# Altium integrated library LARS_409_MC.Library.IntLib: 87 symbols
Pins are listed as number, name and electrical type; pins without a type are passive.

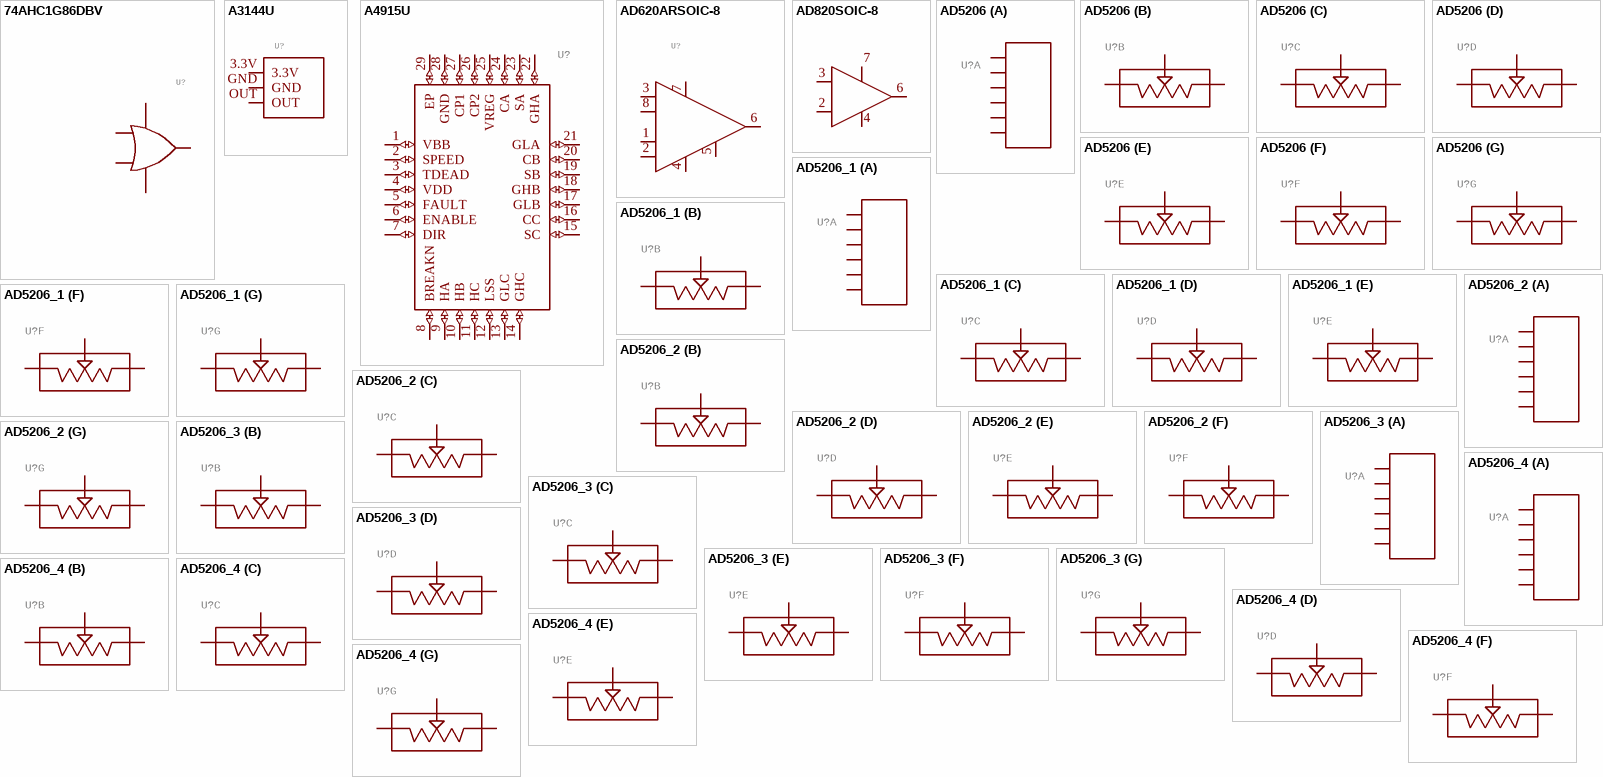
[diagram p0: symbols 74AHC1G86DBV to AD5206_4]

## 74AHC1G86DBV
designator U?
GateName_1: G$1; SymbolName_1: OR; DeviceSetName: 74AHC1G86DBV; LibraryName: LARS_409_MC; Package: SOT-23-5
footprint SOT-23-5
pins: 1 A (io), 2 B (io), 3 GND (io), 4 Y (io), 5 VCC (io)

## A3144U
designator U?
GateName_1: G$1; SymbolName_1: HALL; DeviceName: U; DeviceSetName: A3144; LibraryName: LARS_409_MC; Package: UA
footprint UA
pins: 3.3V (io), GND (io), OUT (io)

## A4915U
designator U?
GateName_1: G$1; SymbolName_1: A4915; DeviceName: U; LibraryName: LARS_409_MC; DeviceSetName: A4915; Package: QFN28
footprint QFN28
pins: 1 VBB (io), 2 SPEED (io), 3 TDEAD (io), 4 VDD (io), 5 FAULT (io), 6 ENABLE (io), 7 DIR (io), 8 BREAKN (io), 9 HA (io), 10 HB (io), 11 HC (io), 12 LSS (io), 13 GLC (io), 14 GHC (io), 15 SC (io), 16 CC (io), 17 GLB (io), 18 GHB (io), 19 SB (io), 20 CB (io), 21 GLA (io), 22 GHA (io), 23 SA (io), 24 CA (io), 25 VREG (io), 26 CP2 (io), 27 CP1 (io), 28 GND (io), 29 EP (io)

## AD620ARSOIC-8
designator U?
GateName_1: G$1; SymbolName_1: AD620AR; DeviceName: SOIC-8; LibraryName: LARS_409_MC; DeviceSetName: AD620AR; Package: SOIC-8
footprint SOIC-8
pins: 1 RG (io), 2 -IN (io), 3 +IN (io), 4 V- (io), 5 REF (io), 6 OUT (io), 7 V+ (io), 8 RG1 (io)

## AD820SOIC-8
designator U?
GateName_1: G$1; SymbolName_1: AD820; DeviceName: SOIC-8; LibraryName: LARS_409_MC; DeviceSetName: AD820; Package: SOIC-8
footprint SOIC-8
pins: 2 -IN (io), 3 +IN (io), 4 V- (io), 6 OUT (io), 7 V+ (io)

## AD5206
designator U?
GateName_1: C; SymbolName_1: DIPO2; GateName_2: 1; SymbolName_2: DIPO1; GateName_3: 2; GateName_4: 3; GateName_5: 4; GateName_6: 5; GateName_7: 6; DeviceSetName: AD5206; SymbolName_3: DIPO1; SymbolName_4: DIPO1; SymbolName_5: DIPO1; SymbolName_6: DIPO1; SymbolName_7: DIPO1; LibraryName: LARS_409_MC; Package: SOIC-24
footprint SOIC-24
part A pins: P$4 GND (io), P$5 !CS (io), P$6 VDD (io), P$7 SDI (io), P$8 CLK (io), P$9 VSS (io)
part B pins: P$16 B1 (io), P$17 W1 (io), P$18 A1 (io)
part C pins: P$19 A1 (io), P$20 W1 (io), P$21 B1 (io)
part D pins: P$13 B1 (io), P$14 W1 (io), P$15 A1 (io)
part E pins: P$22 A1 (io), P$23 W1 (io), P$24 B1 (io)
part F pins: P$10 B1 (io), P$11 W1 (io), P$12 A1 (io)
part G pins: P$1 A1 (io), P$2 W1 (io), P$3 B1 (io)

## AD5206_1
designator U?
GateName_1: C; SymbolName_1: DIPO2; GateName_2: 1; SymbolName_2: DIPO1; GateName_3: 2; GateName_4: 3; GateName_5: 4; GateName_6: 5; GateName_7: 6; DeviceSetName: AD5206; SymbolName_3: DIPO1; SymbolName_4: DIPO1; SymbolName_5: DIPO1; SymbolName_6: DIPO1; SymbolName_7: DIPO1; LibraryName: LARS_409_MC; Package: SOIC-24
footprint SOIC-24
part A pins: P$4 GND (io), P$5 !CS (io), P$6 VDD (io), P$7 SDI (io), P$8 CLK (io), P$9 VSS (io)
part B pins: P$16 B1 (io), P$17 W1 (io), P$18 A1 (io)
part C pins: P$19 A1 (io), P$20 W1 (io), P$21 B1 (io)
part D pins: P$13 B1 (io), P$14 W1 (io), P$15 A1 (io)
part E pins: P$22 A1 (io), P$23 W1 (io), P$24 B1 (io)
part F pins: P$10 B1 (io), P$11 W1 (io), P$12 A1 (io)
part G pins: P$1 A1 (io), P$2 W1 (io), P$3 B1 (io)

## AD5206_2
designator U?
GateName_1: C; SymbolName_1: DIPO2; GateName_2: 1; SymbolName_2: DIPO1; GateName_3: 2; GateName_4: 3; GateName_5: 4; GateName_6: 5; GateName_7: 6; DeviceSetName: AD5206; SymbolName_3: DIPO1; SymbolName_4: DIPO1; SymbolName_5: DIPO1; SymbolName_6: DIPO1; SymbolName_7: DIPO1; LibraryName: LARS_409_MC; Package: SOIC-24
footprint SOIC-24
part A pins: P$4 GND (io), P$5 !CS (io), P$6 VDD (io), P$7 SDI (io), P$8 CLK (io), P$9 VSS (io)
part B pins: P$16 B1 (io), P$17 W1 (io), P$18 A1 (io)
part C pins: P$19 A1 (io), P$20 W1 (io), P$21 B1 (io)
part D pins: P$13 B1 (io), P$14 W1 (io), P$15 A1 (io)
part E pins: P$22 A1 (io), P$23 W1 (io), P$24 B1 (io)
part F pins: P$10 B1 (io), P$11 W1 (io), P$12 A1 (io)
part G pins: P$1 A1 (io), P$2 W1 (io), P$3 B1 (io)

## AD5206_3
designator U?
GateName_1: C; SymbolName_1: DIPO2; GateName_2: 1; SymbolName_2: DIPO1; GateName_3: 2; GateName_4: 3; GateName_5: 4; GateName_6: 5; GateName_7: 6; DeviceSetName: AD5206; SymbolName_3: DIPO1; SymbolName_4: DIPO1; SymbolName_5: DIPO1; SymbolName_6: DIPO1; SymbolName_7: DIPO1; LibraryName: LARS_409_MC; Package: SOIC-24
footprint SOIC-24
part A pins: P$4 GND (io), P$5 !CS (io), P$6 VDD (io), P$7 SDI (io), P$8 CLK (io), P$9 VSS (io)
part B pins: P$16 B1 (io), P$17 W1 (io), P$18 A1 (io)
part C pins: P$19 A1 (io), P$20 W1 (io), P$21 B1 (io)
part D pins: P$13 B1 (io), P$14 W1 (io), P$15 A1 (io)
part E pins: P$22 A1 (io), P$23 W1 (io), P$24 B1 (io)
part F pins: P$10 B1 (io), P$11 W1 (io), P$12 A1 (io)
part G pins: P$1 A1 (io), P$2 W1 (io), P$3 B1 (io)

## AD5206_4
designator U?
GateName_1: C; SymbolName_1: DIPO2; GateName_2: 1; SymbolName_2: DIPO1; GateName_3: 2; GateName_4: 3; GateName_5: 4; GateName_6: 5; GateName_7: 6; DeviceSetName: AD5206; SymbolName_3: DIPO1; SymbolName_4: DIPO1; SymbolName_5: DIPO1; SymbolName_6: DIPO1; SymbolName_7: DIPO1; LibraryName: LARS_409_MC; Package: SOIC-24
footprint SOIC-24
part A pins: P$4 GND (io), P$5 !CS (io), P$6 VDD (io), P$7 SDI (io), P$8 CLK (io), P$9 VSS (io)
part B pins: P$16 B1 (io), P$17 W1 (io), P$18 A1 (io)
part C pins: P$19 A1 (io), P$20 W1 (io), P$21 B1 (io)
part D pins: P$13 B1 (io), P$14 W1 (io), P$15 A1 (io)
part E pins: P$22 A1 (io), P$23 W1 (io), P$24 B1 (io)
part F pins: P$10 B1 (io), P$11 W1 (io), P$12 A1 (io)
part G pins: P$1 A1 (io), P$2 W1 (io), P$3 B1 (io)

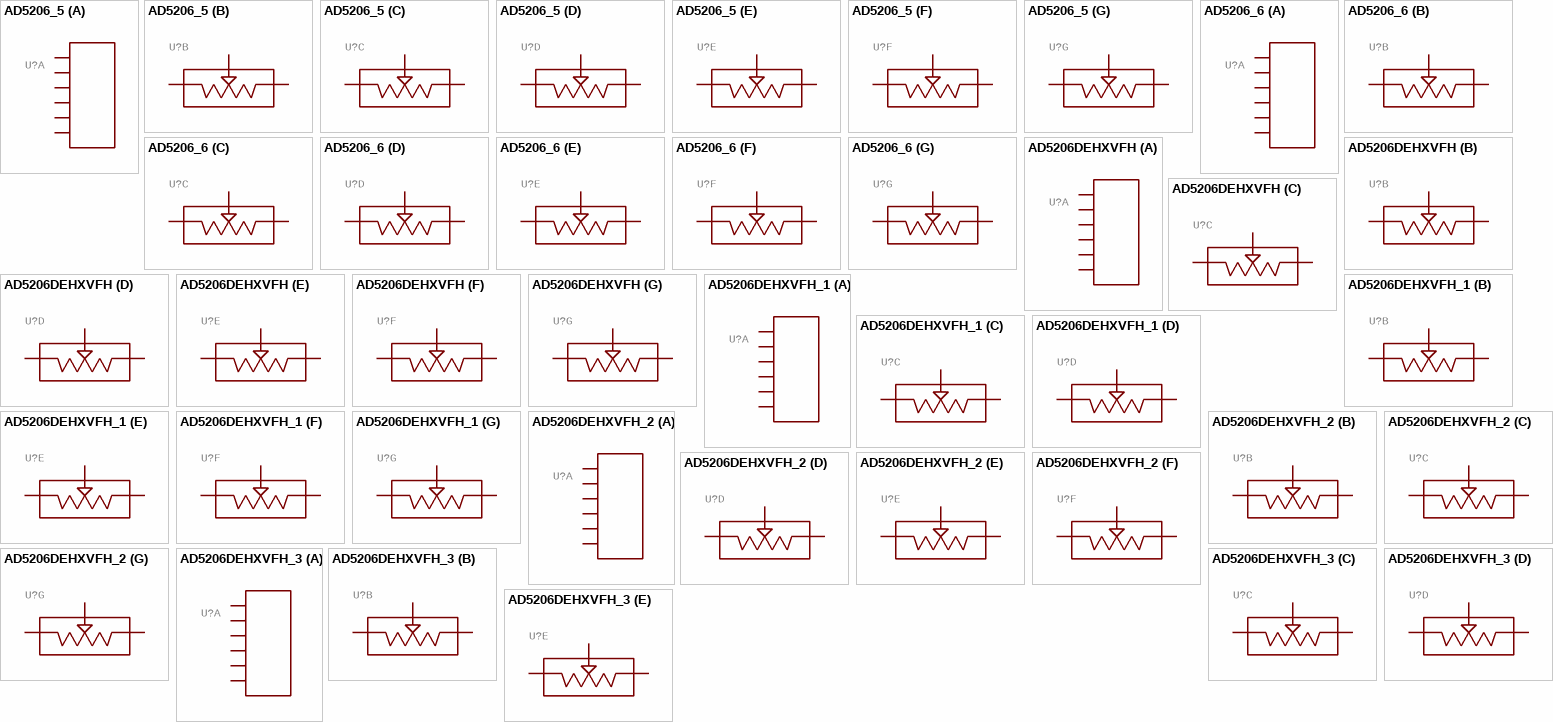
[diagram p1: symbols AD5206_5 to AD5206DEHXVFH_3]

## AD5206_5
designator U?
GateName_1: C; SymbolName_1: DIPO2; GateName_2: 1; SymbolName_2: DIPO1; GateName_3: 2; GateName_4: 3; GateName_5: 4; GateName_6: 5; GateName_7: 6; DeviceSetName: AD5206; SymbolName_3: DIPO1; SymbolName_4: DIPO1; SymbolName_5: DIPO1; SymbolName_6: DIPO1; SymbolName_7: DIPO1; LibraryName: LARS_409_MC; Package: SOIC-24
footprint SOIC-24
part A pins: P$4 GND (io), P$5 !CS (io), P$6 VDD (io), P$7 SDI (io), P$8 CLK (io), P$9 VSS (io)
part B pins: P$16 B1 (io), P$17 W1 (io), P$18 A1 (io)
part C pins: P$19 A1 (io), P$20 W1 (io), P$21 B1 (io)
part D pins: P$13 B1 (io), P$14 W1 (io), P$15 A1 (io)
part E pins: P$22 A1 (io), P$23 W1 (io), P$24 B1 (io)
part F pins: P$10 B1 (io), P$11 W1 (io), P$12 A1 (io)
part G pins: P$1 A1 (io), P$2 W1 (io), P$3 B1 (io)

## AD5206_6
designator U?
GateName_1: C; SymbolName_1: DIPO2; GateName_2: 1; SymbolName_2: DIPO1; GateName_3: 2; GateName_4: 3; GateName_5: 4; GateName_6: 5; GateName_7: 6; DeviceSetName: AD5206; SymbolName_3: DIPO1; SymbolName_4: DIPO1; SymbolName_5: DIPO1; SymbolName_6: DIPO1; SymbolName_7: DIPO1; LibraryName: LARS_409_MC; Package: SOIC-24
footprint SOIC-24
part A pins: P$4 GND (io), P$5 !CS (io), P$6 VDD (io), P$7 SDI (io), P$8 CLK (io), P$9 VSS (io)
part B pins: P$16 B1 (io), P$17 W1 (io), P$18 A1 (io)
part C pins: P$19 A1 (io), P$20 W1 (io), P$21 B1 (io)
part D pins: P$13 B1 (io), P$14 W1 (io), P$15 A1 (io)
part E pins: P$22 A1 (io), P$23 W1 (io), P$24 B1 (io)
part F pins: P$10 B1 (io), P$11 W1 (io), P$12 A1 (io)
part G pins: P$1 A1 (io), P$2 W1 (io), P$3 B1 (io)

## AD5206DEHXVFH
designator U?
GateName_1: C; SymbolName_1: DIPO2; GateName_2: 1; SymbolName_2: DIPO1; GateName_3: 2; GateName_4: 3; GateName_5: 4; GateName_6: 5; GateName_7: 6; DeviceName: DEHXVFH; DeviceSetName: AD5206; SymbolName_3: DIPO1; SymbolName_4: DIPO1; SymbolName_5: DIPO1; SymbolName_6: DIPO1; SymbolName_7: DIPO1; LibraryName: LARS_409_MC; Package: TSSOP-24
footprint TSSOP-24
part A pins: P$4 GND (io), P$5 !CS (io), P$6 VDD (io), P$7 SDI (io), P$8 CLK (io), P$9 VSS (io)
part B pins: P$16 B1 (io), P$17 W1 (io), P$18 A1 (io)
part C pins: P$19 A1 (io), P$20 W1 (io), P$21 B1 (io)
part D pins: P$13 B1 (io), P$14 W1 (io), P$15 A1 (io)
part E pins: P$22 A1 (io), P$23 W1 (io), P$24 B1 (io)
part F pins: P$10 B1 (io), P$11 W1 (io), P$12 A1 (io)
part G pins: P$1 A1 (io), P$2 W1 (io), P$3 B1 (io)

## AD5206DEHXVFH_1
designator U?
GateName_1: C; SymbolName_1: DIPO2; GateName_2: 1; SymbolName_2: DIPO1; GateName_3: 2; GateName_4: 3; GateName_5: 4; GateName_6: 5; GateName_7: 6; DeviceName: DEHXVFH; DeviceSetName: AD5206; SymbolName_3: DIPO1; SymbolName_4: DIPO1; SymbolName_5: DIPO1; SymbolName_6: DIPO1; SymbolName_7: DIPO1; LibraryName: LARS_409_MC; Package: TSSOP-24
footprint TSSOP-24
part A pins: P$4 GND (io), P$5 !CS (io), P$6 VDD (io), P$7 SDI (io), P$8 CLK (io), P$9 VSS (io)
part B pins: P$16 B1 (io), P$17 W1 (io), P$18 A1 (io)
part C pins: P$19 A1 (io), P$20 W1 (io), P$21 B1 (io)
part D pins: P$13 B1 (io), P$14 W1 (io), P$15 A1 (io)
part E pins: P$22 A1 (io), P$23 W1 (io), P$24 B1 (io)
part F pins: P$10 B1 (io), P$11 W1 (io), P$12 A1 (io)
part G pins: P$1 A1 (io), P$2 W1 (io), P$3 B1 (io)

## AD5206DEHXVFH_2
designator U?
GateName_1: C; SymbolName_1: DIPO2; GateName_2: 1; SymbolName_2: DIPO1; GateName_3: 2; GateName_4: 3; GateName_5: 4; GateName_6: 5; GateName_7: 6; DeviceName: DEHXVFH; DeviceSetName: AD5206; SymbolName_3: DIPO1; SymbolName_4: DIPO1; SymbolName_5: DIPO1; SymbolName_6: DIPO1; SymbolName_7: DIPO1; LibraryName: LARS_409_MC; Package: TSSOP-24
footprint TSSOP-24
part A pins: P$4 GND (io), P$5 !CS (io), P$6 VDD (io), P$7 SDI (io), P$8 CLK (io), P$9 VSS (io)
part B pins: P$16 B1 (io), P$17 W1 (io), P$18 A1 (io)
part C pins: P$19 A1 (io), P$20 W1 (io), P$21 B1 (io)
part D pins: P$13 B1 (io), P$14 W1 (io), P$15 A1 (io)
part E pins: P$22 A1 (io), P$23 W1 (io), P$24 B1 (io)
part F pins: P$10 B1 (io), P$11 W1 (io), P$12 A1 (io)
part G pins: P$1 A1 (io), P$2 W1 (io), P$3 B1 (io)

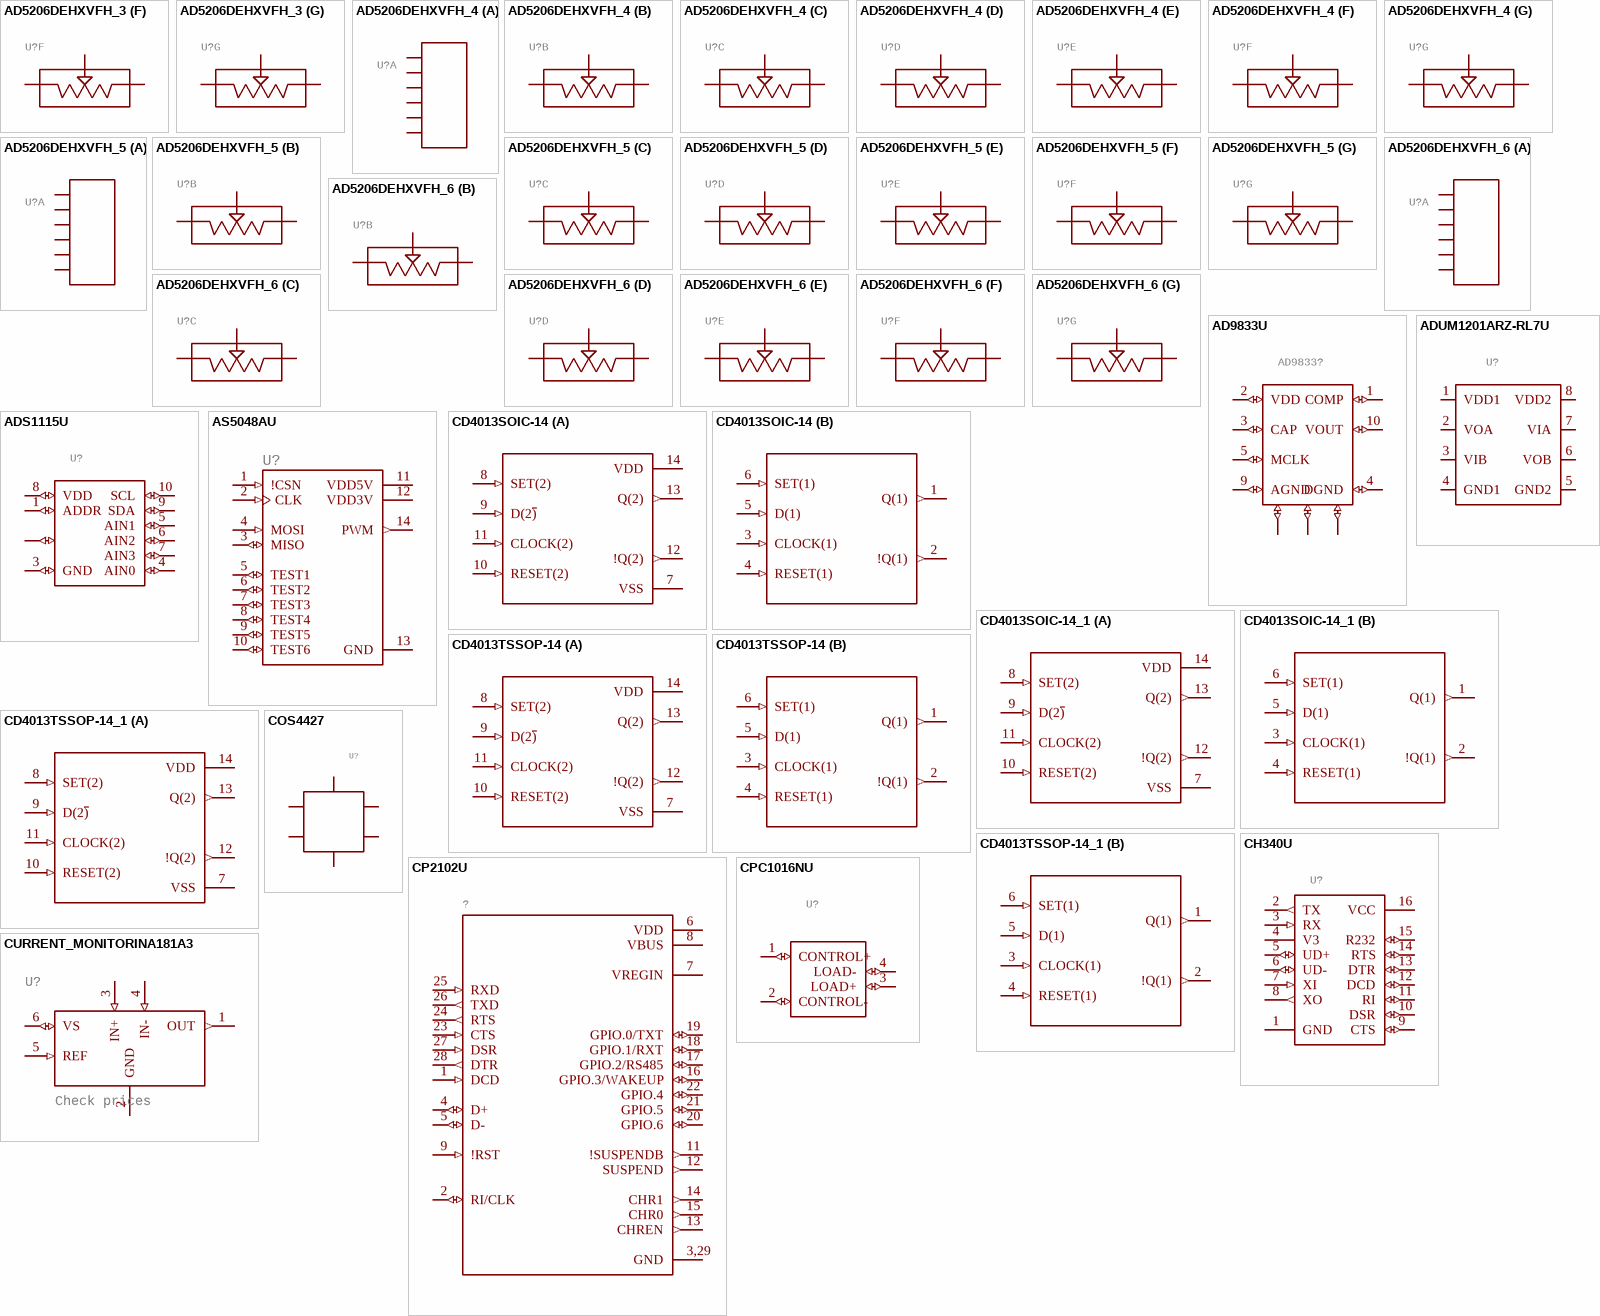
[diagram p2: symbols AD5206DEHXVFH_3 to CURRENT_MONITORINA181A3]

## AD5206DEHXVFH_3
designator U?
GateName_1: C; SymbolName_1: DIPO2; GateName_2: 1; SymbolName_2: DIPO1; GateName_3: 2; GateName_4: 3; GateName_5: 4; GateName_6: 5; GateName_7: 6; DeviceName: DEHXVFH; DeviceSetName: AD5206; SymbolName_3: DIPO1; SymbolName_4: DIPO1; SymbolName_5: DIPO1; SymbolName_6: DIPO1; SymbolName_7: DIPO1; LibraryName: LARS_409_MC; Package: TSSOP-24
footprint TSSOP-24
part A pins: P$4 GND (io), P$5 !CS (io), P$6 VDD (io), P$7 SDI (io), P$8 CLK (io), P$9 VSS (io)
part B pins: P$16 B1 (io), P$17 W1 (io), P$18 A1 (io)
part C pins: P$19 A1 (io), P$20 W1 (io), P$21 B1 (io)
part D pins: P$13 B1 (io), P$14 W1 (io), P$15 A1 (io)
part E pins: P$22 A1 (io), P$23 W1 (io), P$24 B1 (io)
part F pins: P$10 B1 (io), P$11 W1 (io), P$12 A1 (io)
part G pins: P$1 A1 (io), P$2 W1 (io), P$3 B1 (io)

## AD5206DEHXVFH_4
designator U?
GateName_1: C; SymbolName_1: DIPO2; GateName_2: 1; SymbolName_2: DIPO1; GateName_3: 2; GateName_4: 3; GateName_5: 4; GateName_6: 5; GateName_7: 6; DeviceName: DEHXVFH; DeviceSetName: AD5206; SymbolName_3: DIPO1; SymbolName_4: DIPO1; SymbolName_5: DIPO1; SymbolName_6: DIPO1; SymbolName_7: DIPO1; LibraryName: LARS_409_MC; Package: TSSOP-24
footprint TSSOP-24
part A pins: P$4 GND (io), P$5 !CS (io), P$6 VDD (io), P$7 SDI (io), P$8 CLK (io), P$9 VSS (io)
part B pins: P$16 B1 (io), P$17 W1 (io), P$18 A1 (io)
part C pins: P$19 A1 (io), P$20 W1 (io), P$21 B1 (io)
part D pins: P$13 B1 (io), P$14 W1 (io), P$15 A1 (io)
part E pins: P$22 A1 (io), P$23 W1 (io), P$24 B1 (io)
part F pins: P$10 B1 (io), P$11 W1 (io), P$12 A1 (io)
part G pins: P$1 A1 (io), P$2 W1 (io), P$3 B1 (io)

## AD5206DEHXVFH_5
designator U?
GateName_1: C; SymbolName_1: DIPO2; GateName_2: 1; SymbolName_2: DIPO1; GateName_3: 2; GateName_4: 3; GateName_5: 4; GateName_6: 5; GateName_7: 6; DeviceName: DEHXVFH; DeviceSetName: AD5206; SymbolName_3: DIPO1; SymbolName_4: DIPO1; SymbolName_5: DIPO1; SymbolName_6: DIPO1; SymbolName_7: DIPO1; LibraryName: LARS_409_MC; Package: TSSOP-24
footprint TSSOP-24
part A pins: P$4 GND (io), P$5 !CS (io), P$6 VDD (io), P$7 SDI (io), P$8 CLK (io), P$9 VSS (io)
part B pins: P$16 B1 (io), P$17 W1 (io), P$18 A1 (io)
part C pins: P$19 A1 (io), P$20 W1 (io), P$21 B1 (io)
part D pins: P$13 B1 (io), P$14 W1 (io), P$15 A1 (io)
part E pins: P$22 A1 (io), P$23 W1 (io), P$24 B1 (io)
part F pins: P$10 B1 (io), P$11 W1 (io), P$12 A1 (io)
part G pins: P$1 A1 (io), P$2 W1 (io), P$3 B1 (io)

## AD5206DEHXVFH_6
designator U?
GateName_1: C; SymbolName_1: DIPO2; GateName_2: 1; SymbolName_2: DIPO1; GateName_3: 2; GateName_4: 3; GateName_5: 4; GateName_6: 5; GateName_7: 6; DeviceName: DEHXVFH; DeviceSetName: AD5206; SymbolName_3: DIPO1; SymbolName_4: DIPO1; SymbolName_5: DIPO1; SymbolName_6: DIPO1; SymbolName_7: DIPO1; LibraryName: LARS_409_MC; Package: TSSOP-24
footprint TSSOP-24
part A pins: P$4 GND (io), P$5 !CS (io), P$6 VDD (io), P$7 SDI (io), P$8 CLK (io), P$9 VSS (io)
part B pins: P$16 B1 (io), P$17 W1 (io), P$18 A1 (io)
part C pins: P$19 A1 (io), P$20 W1 (io), P$21 B1 (io)
part D pins: P$13 B1 (io), P$14 W1 (io), P$15 A1 (io)
part E pins: P$22 A1 (io), P$23 W1 (io), P$24 B1 (io)
part F pins: P$10 B1 (io), P$11 W1 (io), P$12 A1 (io)
part G pins: P$1 A1 (io), P$2 W1 (io), P$3 B1 (io)

## AD9833U
designator AD9833?
GateName_1: G$1; SymbolName_1: AD9833; DeviceName: U; LibraryName: LARS_409_MC; DeviceSetName: AD9833; Package: MSOP10
footprint MSOP10
pins: 1 COMP (io), 2 VDD (io), 3 CAP (io), 4 DGND (io), 5 MCLK (io), 6 SDATA (io), 7 SCLK (io), 8 FSYNC (io), 9 AGND (io), 10 VOUT (io)

## ADS1115U
designator U?
GateName_1: G$1; SymbolName_1: ADS1115; DeviceName: U; LibraryName: LARS_409_MC; DeviceSetName: ADS1115; Package: SOP-10N
footprint SOP-10N
pins: 1 ADDR (io), 2 ALERT/RDY (io), 3 GND (io), 4 AIN0 (io), 5 AIN1 (io), 6 AIN2 (io), 7 AIN3 (io), 8 VDD (io), 9 SDA (io), 10 SCL (io)

## ADUM1201ARZ-RL7U
designator U?
GateName_1: G$1; SymbolName_1: ADUM1201ARZ-RL7; DeviceName: U; LibraryName: LARS_409_MC; DeviceSetName: ADUM1201ARZ-RL7; Package: SOIC-8
footprint SOIC-8
pins: 1 VDD1 (io), 2 VOA (io), 3 VIB (io), 4 GND1 (io), 5 GND2 (io), 6 VOB (io), 7 VIA (io), 8 VDD2 (io)

## AS5048AU
designator U?
GateName_1: G$1; SymbolName_1: AS5048; DeviceName: U; DeviceSetName: AS5048A; LibraryName: LARS_409_MC; Package: SOP65P
footprint SOP65P
pins: 1 !CSN (in), 2 CLK (in), 3 MISO (io), 4 MOSI (in), 5 TEST1 (io), 6 TEST2 (io), 7 TEST3 (io), 8 TEST4 (io), 9 TEST5 (io), 10 TEST6 (io), 11 VDD5V (power), 12 VDD3V (power), 13 GND, 14 PWM (out)

## CD4013SOIC-14
designator U?
GateName_1: G$1; SymbolName_1: CD4013/2(2); GateName_2: G$2; SymbolName_2: CD4013/2; DeviceName: SOIC-14; DeviceSetName: CD4013; LibraryName: LARS_409_MC; Package: SOIC-14
footprint SOIC-14
part A pins: 7 VSS (power), 8 SET(2) (in), 9 D(2~{)} (in), 10 RESET(2) (in), 11 CLOCK(2) (in), 12 !Q(2) (out), 13 Q(2) (out), 14 VDD (power)
part B pins: 1 Q(1) (out), 2 !Q(1) (out), 3 CLOCK(1) (in), 4 RESET(1) (in), 5 D(1) (in), 6 SET(1) (in)

## CD4013SOIC-14_1
designator U?
GateName_1: G$1; SymbolName_1: CD4013/2(2); GateName_2: G$2; SymbolName_2: CD4013/2; DeviceName: SOIC-14; DeviceSetName: CD4013; LibraryName: LARS_409_MC; Package: SOIC-14
footprint SOIC-14
part A pins: 7 VSS (power), 8 SET(2) (in), 9 D(2~{)} (in), 10 RESET(2) (in), 11 CLOCK(2) (in), 12 !Q(2) (out), 13 Q(2) (out), 14 VDD (power)
part B pins: 1 Q(1) (out), 2 !Q(1) (out), 3 CLOCK(1) (in), 4 RESET(1) (in), 5 D(1) (in), 6 SET(1) (in)

## CD4013TSSOP-14
designator U?
GateName_1: G$1; SymbolName_1: CD4013/2(2); GateName_2: G$2; SymbolName_2: CD4013/2; DeviceName: TSSOP-14; DeviceSetName: CD4013; LibraryName: LARS_409_MC; Package: TSSOP-14
footprint TSSOP-14
part A pins: 7 VSS (power), 8 SET(2) (in), 9 D(2~{)} (in), 10 RESET(2) (in), 11 CLOCK(2) (in), 12 !Q(2) (out), 13 Q(2) (out), 14 VDD (power)
part B pins: 1 Q(1) (out), 2 !Q(1) (out), 3 CLOCK(1) (in), 4 RESET(1) (in), 5 D(1) (in), 6 SET(1) (in)

## CD4013TSSOP-14_1
designator U?
GateName_1: G$1; SymbolName_1: CD4013/2(2); GateName_2: G$2; SymbolName_2: CD4013/2; DeviceName: TSSOP-14; DeviceSetName: CD4013; LibraryName: LARS_409_MC; Package: TSSOP-14
footprint TSSOP-14
part A pins: 7 VSS (power), 8 SET(2) (in), 9 D(2~{)} (in), 10 RESET(2) (in), 11 CLOCK(2) (in), 12 !Q(2) (out), 13 Q(2) (out), 14 VDD (power)
part B pins: 1 Q(1) (out), 2 !Q(1) (out), 3 CLOCK(1) (in), 4 RESET(1) (in), 5 D(1) (in), 6 SET(1) (in)

## CH340U
designator U?
GateName_1: G$1; SymbolName_1: CH340; DeviceName: U; LibraryName: LARS_409_MC; DeviceSetName: CH340; Package: SOIC-16
footprint SOIC-16
pins: 1 GND (power), 2 TX (out), 3 RX (in), 4 V3 (power), 5 UD+ (io), 6 UD- (io), 7 XI (in), 8 XO (out), 9 CTS (io), 10 DSR (io), 11 RI (io), 12 DCD (io), 13 DTR (io), 14 RTS (io), 15 R232 (io), 16 VCC (power)

## COS4427
designator U?
GateName_1: G$1; SymbolName_1: COS4427SR; DeviceSetName: COS4427; LibraryName: LARS_409_MC; Package: SOIC-8
footprint SOIC-8
pins: 2 INA (io), 3 GND (io), 4 INB (io), 5 OUTB (io), 6 VCC (io), 7 OUTA (io)

## CP2102U
designator ?
GateName_1: G$1; SymbolName_1: CP2102; DeviceName: U; LibraryName: LARS_409_MC; DeviceSetName: CP2102; Package: QFN28
footprint QFN28
pins: 1 DCD (in), 2 RI/CLK (io), 3,29 GND (power), 4 D+ (io), 5 D- (io), 6 VDD (power), 7 VREGIN (power), 8 VBUS (power), 9 !RST (in), 11 !SUSPENDB (out), 12 SUSPEND (out), 13 CHREN (out), 14 CHR1 (out), 15 CHR0 (out), 16 GPIO.3/WAKEUP (io), 17 GPIO.2/RS485 (io), 18 GPIO.1/RXT (io), 19 GPIO.0/TXT (io), 20 GPIO.6 (io), 21 GPIO.5 (io), 22 GPIO.4 (io), 23 CTS (in), 24 RTS (out), 25 RXD (in), 26 TXD (out), 27 DSR (in), 28 DTR (out)

## CPC1016NU
designator U?
GateName_1: G$1; SymbolName_1: CPC1016; DeviceName: U; DeviceSetName: CPC1016N; LibraryName: LARS_409_MC; Package: SOP-4
footprint SOP-4
pins: 1 CONTROL+ (io), 2 CONTROL- (io), 3 LOAD+ (io), 4 LOAD- (io)

## CURRENT_MONITORINA181A3
designator U?, comment Check prices
GateName_1: G$1; SymbolName_1: INA181; DeviceName: INA181A3; DeviceSetName: CURRENT_MONITOR; LibraryName: LARS_409_MC; Package: SOT23-6
footprint SOT23-6
pins: 1 OUT (out), 2 GND (power), 3 IN+ (in), 4 IN- (in), 5 REF (in), 6 VS (io)

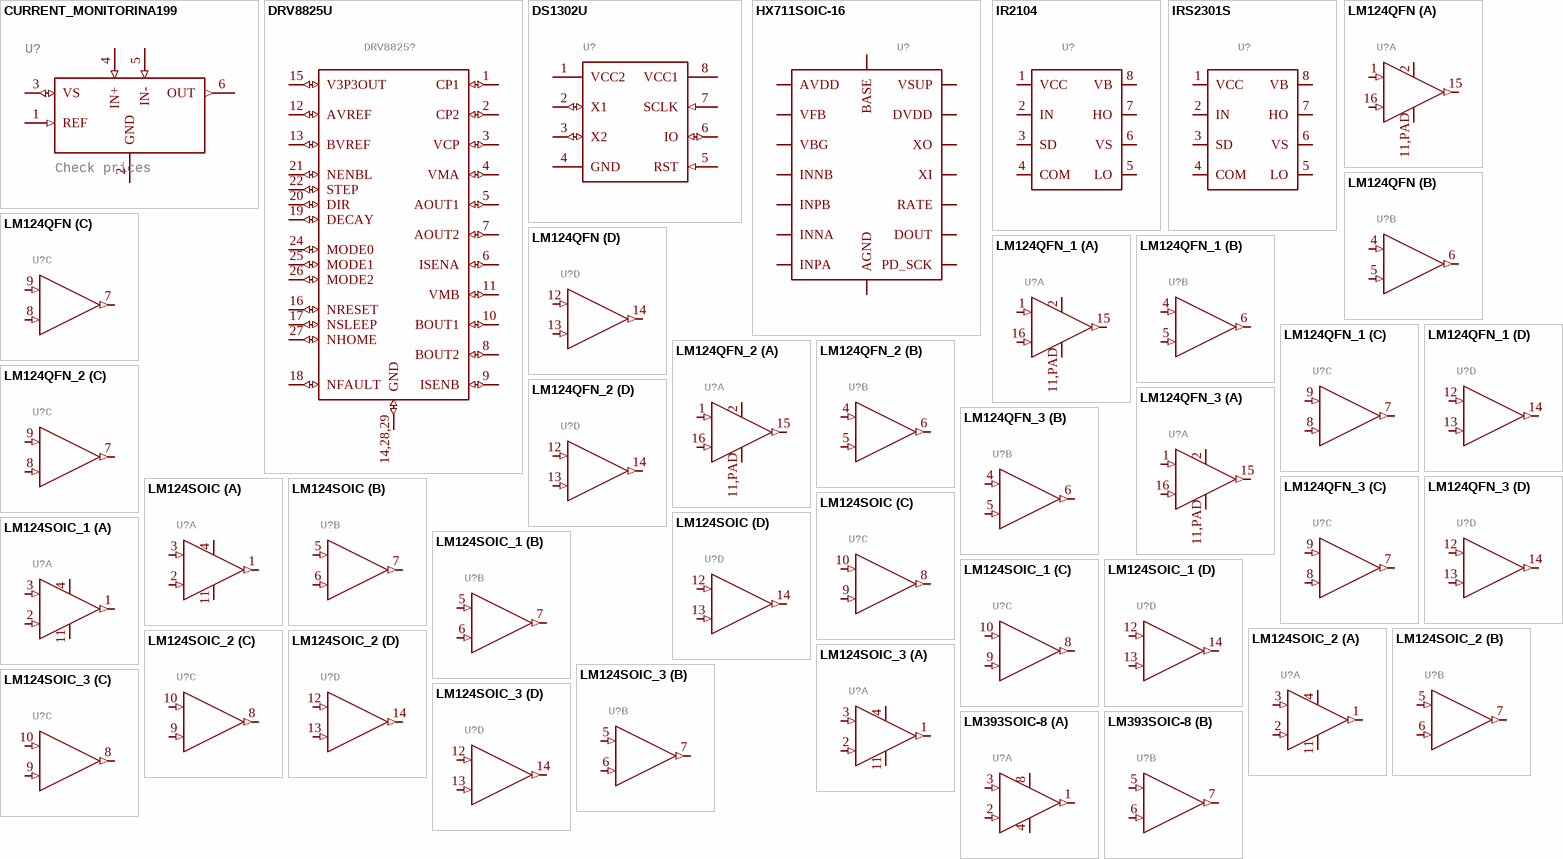
[diagram p3: symbols CURRENT_MONITORINA199 to LM393SOIC-8]

## CURRENT_MONITORINA199
designator U?, comment Check prices
GateName_1: G$1; SymbolName_1: INA181; DeviceName: INA199; DeviceSetName: CURRENT_MONITOR; LibraryName: LARS_409_MC; Package: PDSO
footprint PDSO
pins: 1 REF (in), 2 GND (power), 3 VS (io), 4 IN+ (in), 5 IN- (in), 6 OUT (out)

## DRV8825U
designator DRV8825?
GateName_1: G$1; SymbolName_1: DRV8825; DeviceName: U; LibraryName: LARS_409_MC; DeviceSetName: DRV8825; Package: SOP-29T275X475N
footprint SOP-29T275X475N
pins: 1 CP1 (io), 2 CP2 (io), 3 VCP (io), 4 VMA (io), 5 AOUT1 (io), 6 ISENA (io), 7 AOUT2 (io), 8 BOUT2 (io), 9 ISENB (io), 10 BOUT1 (io), 11 VMB (io), 12 AVREF (io), 13 BVREF (io), 14,28,29 GND (io), 15 V3P3OUT (io), 16 NRESET (io), 17 NSLEEP (io), 18 NFAULT (io), 19 DECAY (io), 20 DIR (io), 21 NENBL (io), 22 STEP (io), 24 MODE0 (io), 25 MODE1 (io), 26 MODE2 (io), 27 NHOME (io)

## DS1302U
designator U?
GateName_1: G$1; SymbolName_1: DS1302; DeviceName: U; LibraryName: LARS_409_MC; DeviceSetName: DS1302; Package: PDIP-8
footprint PDIP-8
pins: 1 VCC2 (power), 2 X1 (io), 3 X2 (io), 4 GND (power), 5 RST (in), 6 IO (io), 7 SCLK (in), 8 VCC1 (power)

## HX711SOIC-16
designator U?
GateName_1: G$1; SymbolName_1: HX711; DeviceName: SOIC-16; LibraryName: LARS_409_MC; DeviceSetName: HX711; Package: SOIC-16
footprint SOIC-16
pins: 1 VSUP (io), 2 BASE (io), 3 AVDD (io), 4 VFB (io), 5 AGND (io), 6 VBG (io), 7 INNA (io), 8 INPA (io), 9 INNB (io), 10 INPB (io), 11 PD_SCK (io), 12 DOUT (io), 13 XO (io), 14 XI (io), 15 RATE (io), 16 DVDD (io)

## IR2104
designator U?
GateName_1: G$1; SymbolName_1: IR2104; LibraryName: LARS_409_MC; DeviceSetName: IR2104; Package: SOIC-8
footprint SOIC-8
pins: 1 VCC (io), 2 IN (io), 3 SD (io), 4 COM (io), 5 LO (io), 6 VS (io), 7 HO (io), 8 VB (io)

## IRS2301S
designator U?
GateName_1: G$1; SymbolName_1: IR2104; DeviceSetName: IRS2301S; LibraryName: LARS_409_MC; Package: IRS2301S
footprint IRS2301S
pins: 1 VCC (io), 2 IN (io), 3 SD (io), 4 COM (io), 5 LO (io), 6 VS (io), 7 HO (io), 8 VB (io)

## LM124QFN
designator U?
GateName_1: G1; SymbolName_1: OPAMP2; GateName_2: G2; SymbolName_2: OPAMP1; GateName_3: G3; GateName_4: G4; DeviceName: QFN; DeviceSetName: LM124; SymbolName_3: OPAMP1; SymbolName_4: OPAMP1; LibraryName: LARS_409_MC; Package: QFN16(3X3)
footprint QFN16(3X3)
part A pins: 1 +IN1 (in), 2 +V (power), 11,PAD GND (power), 15 OUT1 (out), 16 -IN1 (in)
part B pins: 4 +IN2 (in), 5 -IN2 (in), 6 OUT2 (out)
part C pins: 7 OUT2 (out), 8 -IN2 (in), 9 +IN2 (in)
part D pins: 12 +IN2 (in), 13 -IN2 (in), 14 OUT2 (out)

## LM124QFN_1
designator U?
GateName_1: G1; SymbolName_1: OPAMP2; GateName_2: G2; SymbolName_2: OPAMP1; GateName_3: G3; GateName_4: G4; DeviceName: QFN; DeviceSetName: LM124; SymbolName_3: OPAMP1; SymbolName_4: OPAMP1; LibraryName: LARS_409_MC; Package: QFN16(3X3)
footprint QFN16(3X3)
part A pins: 1 +IN1 (in), 2 +V (power), 11,PAD GND (power), 15 OUT1 (out), 16 -IN1 (in)
part B pins: 4 +IN2 (in), 5 -IN2 (in), 6 OUT2 (out)
part C pins: 7 OUT2 (out), 8 -IN2 (in), 9 +IN2 (in)
part D pins: 12 +IN2 (in), 13 -IN2 (in), 14 OUT2 (out)

## LM124QFN_2
designator U?
GateName_1: G1; SymbolName_1: OPAMP2; GateName_2: G2; SymbolName_2: OPAMP1; GateName_3: G3; GateName_4: G4; DeviceName: QFN; DeviceSetName: LM124; SymbolName_3: OPAMP1; SymbolName_4: OPAMP1; LibraryName: LARS_409_MC; Package: QFN16(3X3)
footprint QFN16(3X3)
part A pins: 1 +IN1 (in), 2 +V (power), 11,PAD GND (power), 15 OUT1 (out), 16 -IN1 (in)
part B pins: 4 +IN2 (in), 5 -IN2 (in), 6 OUT2 (out)
part C pins: 7 OUT2 (out), 8 -IN2 (in), 9 +IN2 (in)
part D pins: 12 +IN2 (in), 13 -IN2 (in), 14 OUT2 (out)

## LM124QFN_3
designator U?
GateName_1: G1; SymbolName_1: OPAMP2; GateName_2: G2; SymbolName_2: OPAMP1; GateName_3: G3; GateName_4: G4; DeviceName: QFN; DeviceSetName: LM124; SymbolName_3: OPAMP1; SymbolName_4: OPAMP1; LibraryName: LARS_409_MC; Package: QFN16(3X3)
footprint QFN16(3X3)
part A pins: 1 +IN1 (in), 2 +V (power), 11,PAD GND (power), 15 OUT1 (out), 16 -IN1 (in)
part B pins: 4 +IN2 (in), 5 -IN2 (in), 6 OUT2 (out)
part C pins: 7 OUT2 (out), 8 -IN2 (in), 9 +IN2 (in)
part D pins: 12 +IN2 (in), 13 -IN2 (in), 14 OUT2 (out)

## LM124SOIC
designator U?
GateName_1: G1; SymbolName_1: OPAMP2; GateName_2: G2; SymbolName_2: OPAMP1; GateName_3: G3; GateName_4: G4; DeviceName: SOIC; DeviceSetName: LM124; SymbolName_3: OPAMP1; SymbolName_4: OPAMP1; LibraryName: LARS_409_MC; Package: SOIC-14
footprint SOIC-14
part A pins: 1 OUT1 (out), 2 -IN1 (in), 3 +IN1 (in), 4 +V (power), 11 GND (power)
part B pins: 5 +IN2 (in), 6 -IN2 (in), 7 OUT2 (out)
part C pins: 8 OUT2 (out), 9 -IN2 (in), 10 +IN2 (in)
part D pins: 12 +IN2 (in), 13 -IN2 (in), 14 OUT2 (out)

## LM124SOIC_1
designator U?
GateName_1: G1; SymbolName_1: OPAMP2; GateName_2: G2; SymbolName_2: OPAMP1; GateName_3: G3; GateName_4: G4; DeviceName: SOIC; DeviceSetName: LM124; SymbolName_3: OPAMP1; SymbolName_4: OPAMP1; LibraryName: LARS_409_MC; Package: SOIC-14
footprint SOIC-14
part A pins: 1 OUT1 (out), 2 -IN1 (in), 3 +IN1 (in), 4 +V (power), 11 GND (power)
part B pins: 5 +IN2 (in), 6 -IN2 (in), 7 OUT2 (out)
part C pins: 8 OUT2 (out), 9 -IN2 (in), 10 +IN2 (in)
part D pins: 12 +IN2 (in), 13 -IN2 (in), 14 OUT2 (out)

## LM124SOIC_2
designator U?
GateName_1: G1; SymbolName_1: OPAMP2; GateName_2: G2; SymbolName_2: OPAMP1; GateName_3: G3; GateName_4: G4; DeviceName: SOIC; DeviceSetName: LM124; SymbolName_3: OPAMP1; SymbolName_4: OPAMP1; LibraryName: LARS_409_MC; Package: SOIC-14
footprint SOIC-14
part A pins: 1 OUT1 (out), 2 -IN1 (in), 3 +IN1 (in), 4 +V (power), 11 GND (power)
part B pins: 5 +IN2 (in), 6 -IN2 (in), 7 OUT2 (out)
part C pins: 8 OUT2 (out), 9 -IN2 (in), 10 +IN2 (in)
part D pins: 12 +IN2 (in), 13 -IN2 (in), 14 OUT2 (out)

## LM124SOIC_3
designator U?
GateName_1: G1; SymbolName_1: OPAMP2; GateName_2: G2; SymbolName_2: OPAMP1; GateName_3: G3; GateName_4: G4; DeviceName: SOIC; DeviceSetName: LM124; SymbolName_3: OPAMP1; SymbolName_4: OPAMP1; LibraryName: LARS_409_MC; Package: SOIC-14
footprint SOIC-14
part A pins: 1 OUT1 (out), 2 -IN1 (in), 3 +IN1 (in), 4 +V (power), 11 GND (power)
part B pins: 5 +IN2 (in), 6 -IN2 (in), 7 OUT2 (out)
part C pins: 8 OUT2 (out), 9 -IN2 (in), 10 +IN2 (in)
part D pins: 12 +IN2 (in), 13 -IN2 (in), 14 OUT2 (out)

## LM393SOIC-8
designator U?
GateName_1: G$1; SymbolName_1: OPAMP2; GateName_2: G$2; SymbolName_2: OPAMP1; DeviceName: SOIC-8; DeviceSetName: LM393; LibraryName: LARS_409_MC; Package: SOIC-8
footprint SOIC-8
part A pins: 1 OUT1 (out), 2 -IN1 (in), 3 +IN1 (in), 4 GND (power), 8 +V (power)
part B pins: 5 +IN2 (in), 6 -IN2 (in), 7 OUT2 (out)

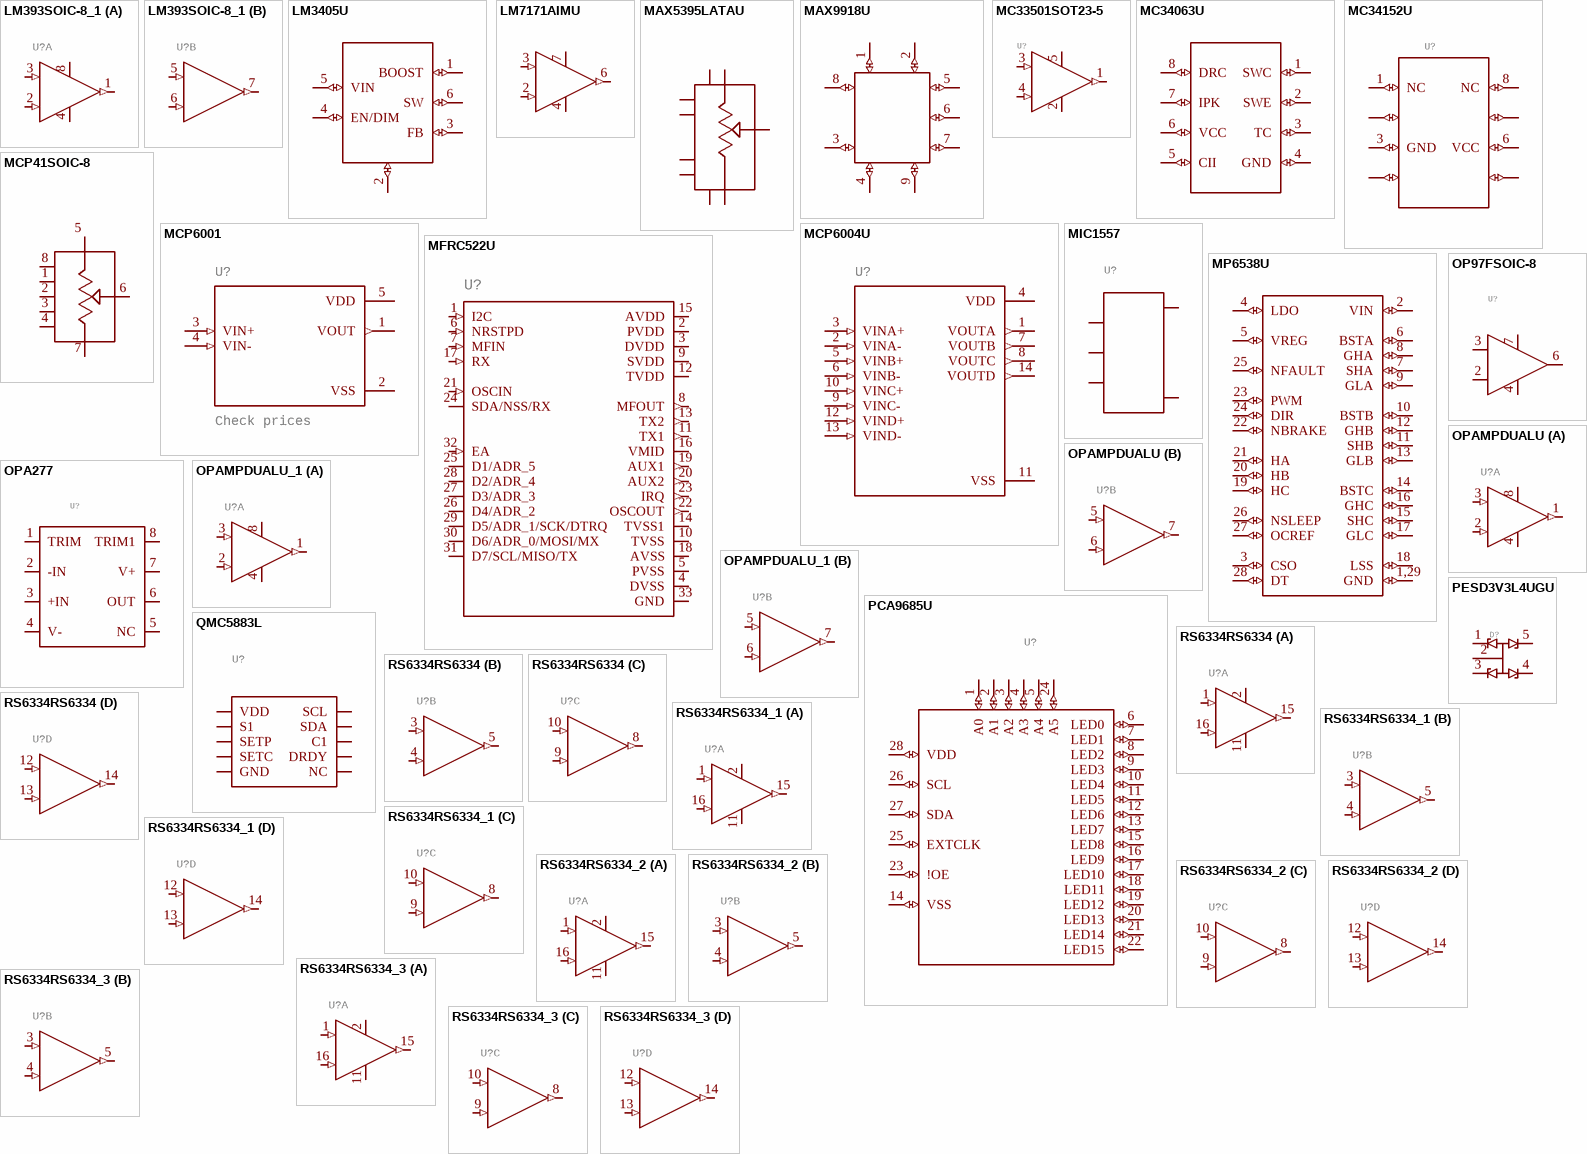
[diagram p4: symbols LM393SOIC-8_1 to RS6334RS6334_3]

## LM393SOIC-8_1
designator U?
GateName_1: G$1; SymbolName_1: OPAMP2; GateName_2: G$2; SymbolName_2: OPAMP1; DeviceName: SOIC-8; DeviceSetName: LM393; LibraryName: LARS_409_MC; Package: SOIC-8
footprint SOIC-8
part A pins: 1 OUT1 (out), 2 -IN1 (in), 3 +IN1 (in), 4 GND (power), 8 +V (power)
part B pins: 5 +IN2 (in), 6 -IN2 (in), 7 OUT2 (out)

## LM3405U
designator U?
GateName_1: G$1; SymbolName_1: LM3405; DeviceName: U; LibraryName: LARS_409_MC; DeviceSetName: LM3405; Package: SOT23-6
footprint SOT23-6
pins: 1 BOOST (io), 2 GND (io), 3 FB (io), 4 EN/DIM (io), 5 VIN (io), 6 SW (io)

## LM7171AIMU
designator U?
GateName_1: G$1; SymbolName_1: OPAMP3; DeviceName: U; DeviceSetName: LM7171AIM; LibraryName: LARS_409_MC; Package: SOIC-8
footprint SOIC-8
pins: 2 -IN1 (in), 3 +IN1 (in), 4 -V (power), 6 OUT1 (out), 7 +V (power)

## MAX5395LATAU
designator U?
GateName_1: G$1; SymbolName_1: MAX5395LATA; DeviceName: U; LibraryName: LARS_409_MC; DeviceSetName: MAX5395LATA; Package: SON-9T80X180N
footprint SON-9T80X180N
pins: 1 L (io), 2 GND (io), 3 ADDPR0 (io), 4 SDA (io), 5 SCL (io), 6 VDD (io), 7 W (io), 8 H (io), 9 EP (io)

## MAX9918U
designator U?
GateName_1: G$1; SymbolName_1: MAX9918; DeviceName: U; LibraryName: LARS_409_MC; DeviceSetName: MAX9918; Package: HSOIC8
footprint HSOIC8
pins: 1 RS+ (io), 2 RS- (io), 3 SHDN (io), 4 GND (io), 5 OUT (io), 6 FB (io), 7 REFIN (io), 8 VCC (io), 9 THERM (io)

## MC33501SOT23-5
designator U?
GateName_1: G$1; SymbolName_1: OPAMP2; DeviceName: SOT23-5; DeviceSetName: MC33501; LibraryName: LARS_409_MC; Package: SOT-23-5
footprint SOT-23-5
pins: 1 OUT1 (out), 2 GND (power), 3 +IN1 (in), 4 -IN1 (in), 5 +V (power)

## MC34063U
designator U?
GateName_1: G$1; SymbolName_1: MC34063; DeviceName: U; LibraryName: LARS_409_MC; DeviceSetName: MC34063; Package: SOIC-8
footprint SOIC-8
pins: 1 SWC (io), 2 SWE (io), 3 TC (io), 4 GND (io), 5 CII (io), 6 VCC (io), 7 IPK (io), 8 DRC (io)

## MC34152U
designator U?
GateName_1: G$1; SymbolName_1: MC34152; DeviceName: U; LibraryName: LARS_409_MC; DeviceSetName: MC34152; Package: SOIC-8N
footprint SOIC-8N
pins: 1 NC (io), 2 IN_A (io), 3 GND (io), 4 IN_B (io), 5 OUT_B (io), 6 VCC (io), 7 OUT_A (io), 8 NС (io)

## MCP41SOIC-8
designator U?
GateName_1: G$1; SymbolName_1: MCP41; DeviceName: SOIC-8; LibraryName: LARS_409_MC; DeviceSetName: MCP41; Package: SOIC-8
footprint SOIC-8
pins: 1 CS (io), 2 SCK (io), 3 SI (io), 4 VSS (io), 5 A (io), 6 W (io), 7 B (io), 8 VDD (io)

## MCP6001
designator U?, comment Check prices
GateName_1: A; SymbolName_1: MCP6001RT-E/OT; DeviceSetName: MCP6001; LibraryName: LARS_409_MC; Package: SOT-23-5
footprint SOT-23-5
pins: 1 VOUT (out), 2 VSS (power), 3 VIN+ (in), 4 VIN- (in), 5 VDD (power)

## MCP6004U
designator U?
GateName_1: A; SymbolName_1: MCP6004-E/ST; DeviceName: U; DeviceSetName: MCP6004; LibraryName: LARS_409_MC; Package: TSSOP-14
footprint TSSOP-14
pins: 1 VOUTA (out), 2 VINA- (in), 3 VINA+ (in), 4 VDD (power), 5 VINB+ (in), 6 VINB- (in), 7 VOUTB (out), 8 VOUTC (out), 9 VINC- (in), 10 VINC+ (in), 11 VSS (power), 12 VIND+ (in), 13 VIND- (in), 14 VOUTD (out)

## MFRC522U
designator U?
GateName_1: G$1; SymbolName_1: MFRC522; DeviceName: U; LibraryName: LARS_409_MC; DeviceSetName: MFRC522; Package: MFRC522
footprint MFRC522
pins: 1 I2C (in), 2 PVDD (power), 3 DVDD (power), 4 DVSS (power), 5 PVSS (power), 6 NRSTPD (in), 7 MFIN (in), 8 MFOUT (out), 9 SVDD (power), 10 TVSS (power), 11 TX1 (out), 12 TVDD (power), 13 TX2 (out), 14 TVSS1 (power), 15 AVDD (power), 16 VMID (power), 17 RX (in), 18 AVSS (power), 19 AUX1 (out), 20 AUX2 (out), 21 OSCIN (in), 22 OSCOUT (out), 23 IRQ (out), 24 SDA/NSS/RX (io), 25 D1/ADR_5 (io), 26 D4/ADR_2 (io), 27 D3/ADR_3 (io), 28 D2/ADR_4 (io), 29 D5/ADR_1/SCK/DTRQ (io), 30 D6/ADR_0/MOSI/MX (io), 31 D7/SCL/MISO/TX (io), 32 EA (in), 33 GND (power)

## MIC1557
designator U?
GateName_1: G$1; SymbolName_1: MIC1557; LibraryName: LARS_409_MC; DeviceSetName: MIC1557; Package: SOT-23-5
footprint SOT-23-5
pins: 1 T/T (io), 2 GND (io), 3 CS (io), 4 VS (io), 5 OUT (io)

## MP6538U
designator U?
GateName_1: G$1; SymbolName_1: MP6538; DeviceName: U; LibraryName: LARS_409_MC; DeviceSetName: MP6538; Package: QFN28_5X4
footprint QFN28_5X4
pins: 1,29 GND (io), 2 VIN (io), 3 CSO (io), 4 LDO (io), 5 VREG (io), 6 BSTA (io), 7 SHA (io), 8 GHA (io), 9 GLA (io), 10 BSTB (io), 11 SHB (io), 12 GHB (io), 13 GLB (io), 14 BSTC (io), 15 SHC (io), 16 GHC (io), 17 GLC (io), 18 LSS (io), 19 HC (io), 20 HB (io), 21 HA (io), 22 NBRAKE (io), 23 PWM (io), 24 DIR (io), 25 NFAULT (io), 26 NSLEEP (io), 27 OCREF (io), 28 DT (io)

## OP97FSOIC-8
designator U?
GateName_1: G$1; SymbolName_1: OP97F; DeviceName: SOIC-8; LibraryName: LARS_409_MC; DeviceSetName: OP97F; Package: SOIC-8
footprint SOIC-8
pins: 2 -IN (io), 3 +IN (io), 4 V- (io), 6 OUT (io), 7 V+ (io)

## OPA277
designator U?
GateName_1: G$1; SymbolName_1: OPA277; LibraryName: LARS_409_MC; DeviceSetName: OPA277; Package: SOIC-8
footprint SOIC-8
pins: 1 TRIM (io), 2 -IN (io), 3 +IN (io), 4 V- (io), 5 NC (io), 6 OUT (io), 7 V+ (io), 8 TRIM1 (io)

## OPAMPDUALU
designator U?
GateName_1: A; SymbolName_1: OPAMP2; GateName_2: B; SymbolName_2: OPAMP1; DeviceName: U; DeviceSetName: OPAMPDUAL; LibraryName: LARS_409_MC; Package: SOIC-8
footprint SOIC-8
part A pins: 1 OUT1 (out), 2 -IN1 (in), 3 +IN1 (in), 4 GND (power), 8 +V (power)
part B pins: 5 +IN2 (in), 6 -IN2 (in), 7 OUT2 (out)

## OPAMPDUALU_1
designator U?
GateName_1: A; SymbolName_1: OPAMP2; GateName_2: B; SymbolName_2: OPAMP1; DeviceName: U; DeviceSetName: OPAMPDUAL; LibraryName: LARS_409_MC; Package: SOIC-8
footprint SOIC-8
part A pins: 1 OUT1 (out), 2 -IN1 (in), 3 +IN1 (in), 4 GND (power), 8 +V (power)
part B pins: 5 +IN2 (in), 6 -IN2 (in), 7 OUT2 (out)

## PCA9685U
designator U?
GateName_1: G$1; SymbolName_1: PCA9685; DeviceName: U; LibraryName: LARS_409_MC; DeviceSetName: PCA9685; Package: TSSOP-28
footprint TSSOP-28
pins: 1 A0 (io), 2 A1 (io), 3 A2 (io), 4 A3 (io), 5 A4 (io), 6 LED0 (io), 7 LED1 (io), 8 LED2 (io), 9 LED3 (io), 10 LED4 (io), 11 LED5 (io), 12 LED6 (io), 13 LED7 (io), 14 VSS (io), 15 LED8 (io), 16 LED9 (io), 17 LED10 (io), 18 LED11 (io), 19 LED12 (io), 20 LED13 (io), 21 LED14 (io), 22 LED15 (io), 23 !OE (io), 24 A5 (io), 25 EXTCLK (io), 26 SCL (io), 27 SDA (io), 28 VDD (io)

## PESD3V3L4UGU
designator D?
GateName_1: G$1; SymbolName_1: PESD3V3L4UG; DeviceName: U; LibraryName: LARS_409_MC; DeviceSetName: PESD3V3L4UG; Package: SOT353
footprint SOT353
pins: 1 CATHODE(DIODE_1), 2 COMMON_ANODE, 3 CATHODE(DIODE_2), 4 CATHODE(DIODE_3), 5 CATHODE(DIODE_4)

## QMC5883L
designator U?
GateName_1: G$1; SymbolName_1: QMC5883L; LibraryName: LARS_409_MC; DeviceSetName: QMC5883L; Package: QFN16(3X3)NOPAD
footprint QFN16(3X3)NOPAD
pins: 1 SCL (io), 2,13 VDD (io), 3,5,6,7,14 NC (io), 4 S1 (io), 8 SETP (io), 9,11 GND (io), 10 C1 (io), 12 SETC (io), 15 DRDY (io), 16 SDA (io)

## RS6334RS6334
designator U?
GateName_1: G1; SymbolName_1: OPAMP2; GateName_2: G2; SymbolName_2: OPAMP1; GateName_3: G3; GateName_4: G4; DeviceName: RS6334; SymbolName_3: OPAMP1; SymbolName_4: OPAMP1; LibraryName: LARS_409_MC; DeviceSetName: RS6334; Package: QFN16(3X3)
footprint QFN16(3X3)
part A pins: 1 +IN1 (in), 2 +V (power), 11 GND (power), 15 OUT1 (out), 16 -IN1 (in)
part B pins: 3 +IN2 (in), 4 -IN2 (in), 5 OUT2 (out)
part C pins: 8 OUT2 (out), 9 -IN2 (in), 10 +IN2 (in)
part D pins: 12 +IN2 (in), 13 -IN2 (in), 14 OUT2 (out)

## RS6334RS6334_1
designator U?
GateName_1: G1; SymbolName_1: OPAMP2; GateName_2: G2; SymbolName_2: OPAMP1; GateName_3: G3; GateName_4: G4; DeviceName: RS6334; SymbolName_3: OPAMP1; SymbolName_4: OPAMP1; LibraryName: LARS_409_MC; DeviceSetName: RS6334; Package: QFN16(3X3)
footprint QFN16(3X3)
part A pins: 1 +IN1 (in), 2 +V (power), 11 GND (power), 15 OUT1 (out), 16 -IN1 (in)
part B pins: 3 +IN2 (in), 4 -IN2 (in), 5 OUT2 (out)
part C pins: 8 OUT2 (out), 9 -IN2 (in), 10 +IN2 (in)
part D pins: 12 +IN2 (in), 13 -IN2 (in), 14 OUT2 (out)

## RS6334RS6334_2
designator U?
GateName_1: G1; SymbolName_1: OPAMP2; GateName_2: G2; SymbolName_2: OPAMP1; GateName_3: G3; GateName_4: G4; DeviceName: RS6334; SymbolName_3: OPAMP1; SymbolName_4: OPAMP1; LibraryName: LARS_409_MC; DeviceSetName: RS6334; Package: QFN16(3X3)
footprint QFN16(3X3)
part A pins: 1 +IN1 (in), 2 +V (power), 11 GND (power), 15 OUT1 (out), 16 -IN1 (in)
part B pins: 3 +IN2 (in), 4 -IN2 (in), 5 OUT2 (out)
part C pins: 8 OUT2 (out), 9 -IN2 (in), 10 +IN2 (in)
part D pins: 12 +IN2 (in), 13 -IN2 (in), 14 OUT2 (out)

## RS6334RS6334_3
designator U?
GateName_1: G1; SymbolName_1: OPAMP2; GateName_2: G2; SymbolName_2: OPAMP1; GateName_3: G3; GateName_4: G4; DeviceName: RS6334; SymbolName_3: OPAMP1; SymbolName_4: OPAMP1; LibraryName: LARS_409_MC; DeviceSetName: RS6334; Package: QFN16(3X3)
footprint QFN16(3X3)
part A pins: 1 +IN1 (in), 2 +V (power), 11 GND (power), 15 OUT1 (out), 16 -IN1 (in)
part B pins: 3 +IN2 (in), 4 -IN2 (in), 5 OUT2 (out)
part C pins: 8 OUT2 (out), 9 -IN2 (in), 10 +IN2 (in)
part D pins: 12 +IN2 (in), 13 -IN2 (in), 14 OUT2 (out)

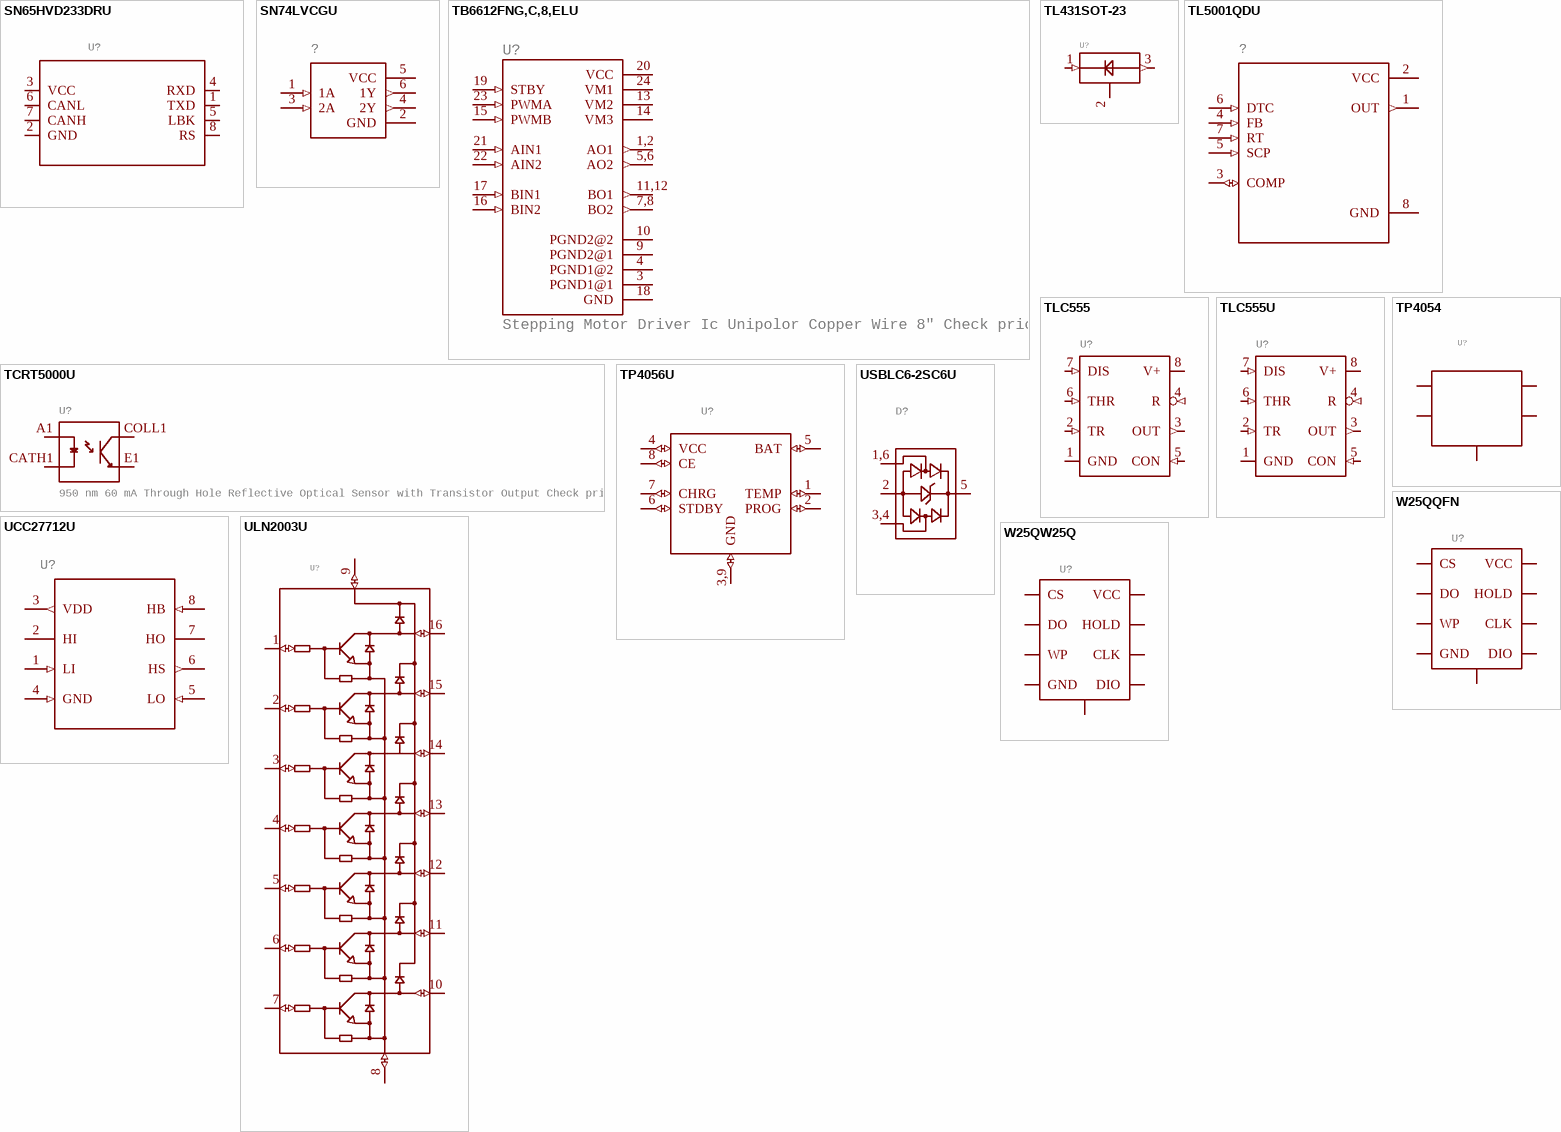
[diagram p5: symbols SN65HVD233DRU to W25QW25Q]

## SN65HVD233DRU
designator U?
GateName_1: G$1; SymbolName_1: SN65HVD233DR; DeviceName: U; LibraryName: LARS_409_MC; DeviceSetName: SN65HVD233DR; Package: SOIC-8
footprint SOIC-8
pins: 1 TXD (io), 2 GND (io), 3 VCC (io), 4 RXD (io), 5 LBK (io), 6 CANL (io), 7 CANH (io), 8 RS (io)

## SN74LVCGU
designator ?
GateName_1: G$1; SymbolName_1: SN74LVCG; DeviceName: U; LibraryName: LARS_409_MC; DeviceSetName: SN74LVCG; Package: SOT23-6
footprint SOT23-6
pins: 1 1A (in), 2 GND (power), 3 2A (in), 4 2Y (out), 5 VCC (power), 6 1Y (out)

## TB6612FNG,C,8,ELU
designator U?, comment Stepping Motor Driver Ic Unipolor Copper Wire 8" Check prices
GateName_1: G$1; SymbolName_1: TB6612FNG,C,8,EL; DeviceName: U; LibraryName: LARS_409_MC; DeviceSetName: TB6612FNG,C,8,EL; Package: SOP65
footprint SOP65
pins: 1,2 AO1 (out), 3 PGND1@1, 4 PGND1@2, 5,6 AO2 (out), 7,8 BO2 (out), 9 PGND2@1, 10 PGND2@2, 11,12 BO1 (out), 13 VM2 (power), 14 VM3 (power), 15 PWMB (in), 16 BIN2 (in), 17 BIN1 (in), 18 GND, 19 STBY (in), 20 VCC (power), 21 AIN1 (in), 22 AIN2 (in), 23 PWMA (in), 24 VM1 (power)

## TCRT5000U
designator U?, comment 950 nm 60 mA Through Hole Reflective Optical Sensor with Transistor Output Check prices
GateName_1: G$1; SymbolName_1: TCRT5000; DeviceName: U; LibraryName: LARS_409_MC; DeviceSetName: TCRT5000; Package: OPTO_TCRT5000
footprint OPTO_TCRT5000
pins: A1 A, CATH1 CATH, COLL1 COLL, E1 E

## TL431SOT-23
designator U?
GateName_1: G$1; SymbolName_1: TL431; DeviceName: SOT-23; LibraryName: LARS_409_MC; DeviceSetName: TL431; Package: SOT-23
footprint SOT-23
pins: 1 CATHODE (in), 2 REF (power), 3 ANODE (out)

## TL5001QDU
designator ?
GateName_1: G$1; SymbolName_1: TL5001QD; DeviceName: U; LibraryName: LARS_409_MC; DeviceSetName: TL5001QD; Package: SOIC-8
footprint SOIC-8
pins: 1 OUT (out), 2 VCC (power), 3 COMP (io), 4 FB (in), 5 SCP (in), 6 DTC (in), 7 RT (in), 8 GND (power)

## TLC555
designator U?
GateName_1: G$1; SymbolName_1: TLC555; LibraryName: LARS_409_MC; DeviceSetName: TLC555; Package: PDIP-8
footprint PDIP-8
pins: 1 GND (power), 2 TR (in), 3 OUT (out), 4 R (in), 5 CON (in), 6 THR (in), 7 DIS (in), 8 V+ (power)

## TLC555U
designator U?
GateName_1: G$1; SymbolName_1: TLC555; DeviceName: U; LibraryName: LARS_409_MC; DeviceSetName: TLC555; Package: SOIC-8
footprint SOIC-8
pins: 1 GND (power), 2 TR (in), 3 OUT (out), 4 R (in), 5 CON (in), 6 THR (in), 7 DIS (in), 8 V+ (power)

## TP4054
designator U?
GateName_1: G$1; SymbolName_1: TP4054; LibraryName: LARS_409_MC; DeviceSetName: TP4054; Package: SOT-23-5
footprint SOT-23-5
pins: 1 !CHRG (io), 2 GND (io), 3 BAT (io), 4 VCC (io), 5 PROG (io)

## TP4056U
designator U?
GateName_1: G$1; SymbolName_1: TP4056; DeviceName: U; LibraryName: LARS_409_MC; DeviceSetName: TP4056; Package: HSOIC8
footprint HSOIC8
pins: 1 TEMP (io), 2 PROG (io), 3,9 GND (io), 4 VCC (io), 5 BAT (io), 6 STDBY (io), 7 CHRG (io), 8 CE (io)

## UCC27712U
designator U?
GateName_1: G$1; SymbolName_1: UCC27712; DeviceName: U; LibraryName: LARS_409_MC; DeviceSetName: UCC27712; Package: SOIC-8
footprint SOIC-8
pins: 1 LI (in), 2 HI (power), 3 VDD (out), 4 GND (in), 5 LO (in), 6 HS (out), 7 HO (power), 8 HB (in)

## ULN2003U
designator U?
GateName_1: G$1; SymbolName_1: ULN2003; DeviceName: U; LibraryName: LARS_409_MC; DeviceSetName: ULN2003; Package: SOIC-16
footprint SOIC-16
pins: 1 (io), 2 (io), 3 (io), 4 (io), 5 (io), 6 (io), 7 (io), 8 (io), 9 (io), 10 (io), 11 (io), 12 (io), 13 (io), 14 (io), 15 (io), 16 (io)

## USBLC6-2SC6U
designator D?
GateName_1: G$1; SymbolName_1: USBLC6-2SC6; DeviceName: U; LibraryName: LARS_409_MC; DeviceSetName: USBLC6-2SC6; Package: SOT23-6
footprint SOT23-6
pins: 1,6 I/O1 (io), 2 GND (power), 3,4 I/O2 (io), 5 VBUS (power)

## W25QQFN
designator U?
GateName_1: G$1; SymbolName_1: WINBOND; DeviceName: QFN; DeviceSetName: W25Q; LibraryName: LARS_409_MC; Package: WSON8X6-MM
footprint WSON8X6-MM
pins: P$1 (io), P$2 CS (io), P$3 DO (io), P$4 WP (io), P$5 GND (io), P$6 DIO (io), P$7 CLK (io), P$8 HOLD (io), P$9 VCC (io)

## W25QW25Q
designator U?
GateName_1: G$1; SymbolName_1: WINBOND; DeviceName: W25Q; LibraryName: LARS_409_MC; DeviceSetName: W25Q; Package: SOIC-8(5.3мм)
footprint SOIC-8(5.3мм)
pins: 1 CS (io), 2 DO (io), 3 WP (io), 4 GND (io), 5 DIO (io), 6 CLK (io), 7 HOLD (io), 8 VCC (io), ?1 P$1 (io)